# Altium schematic symbol library jumper2.SchLib: 1 symbol
Pins are listed as number, name and electrical type; pins without a type are passive.

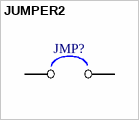
[diagram p0: symbol JUMPER2]

## JUMPER2
designator JMP?
cavalier 1 position
footprint JMP2-100
footprint JMP2-2MM
pins: 1, 2